# EAGLE library part A10_OLIMEXINO_LIME_SHIELD_A10_OLINUXINO_LIME_SHIELD_TEMPLATE (library videobrick_alpha4_eagle_footprints)
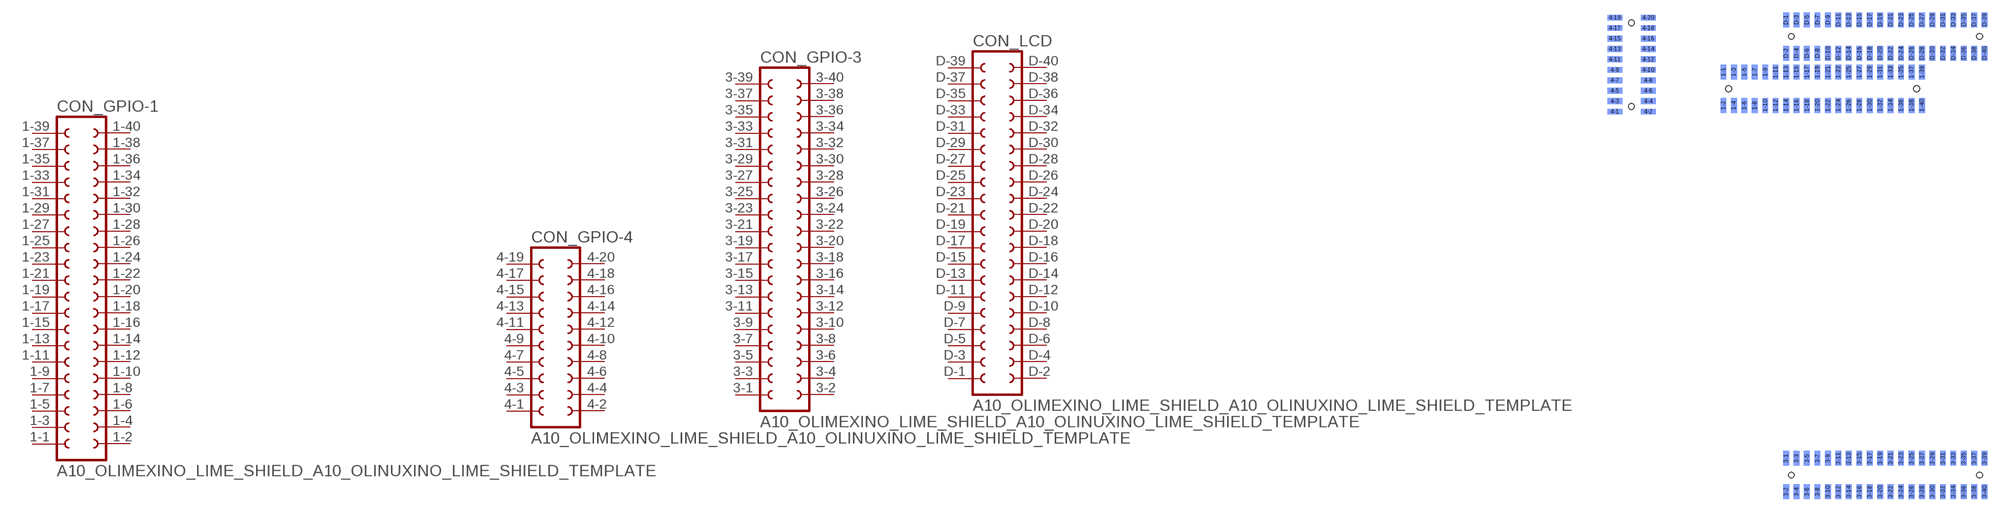
[diagram p0: symbol with the pads of A10_OLIMEXINO_LIME_SHIELD_A10_OLINUXINO_LIME_SHIELD; footprint A10_OLIMEXINO_LIME_SHIELD_A10_OLINUXINO_LIME_SHIELD]

Designator prefix CON; gates _GPIO-1=A10_OLIMEXINO_LIME_SHIELD_CON_2X20_F _GPIO-3=A10_OLIMEXINO_LIME_SHIELD_CON_2X20_F _GPIO-4=A10_OLIMEXINO_LIME_SHIELD_CON_2X10_F _LCD=A10_OLIMEXINO_LIME_SHIELD_CON_2X20_F

## A10_OLIMEXINO_LIME_SHIELD_A10_OLINUXINO_LIME_SHIELD_TEMPLATE  [A10_OLIMEXINO_LIME_SHIELD_A10_OLINUXINO_LIME_SHIELD]
1-1  _GPIO-1:1  pas
1-2  _GPIO-1:2  pas
1-3  _GPIO-1:3  pas
1-4  _GPIO-1:4  pas
1-5  _GPIO-1:5  pas
1-6  _GPIO-1:6  pas
1-7  _GPIO-1:7  pas
1-8  _GPIO-1:8  pas
1-9  _GPIO-1:9  pas
1-10  _GPIO-1:10  pas
1-11  _GPIO-1:11  pas
1-12  _GPIO-1:12  pas
1-13  _GPIO-1:13  pas
1-14  _GPIO-1:14  pas
1-15  _GPIO-1:15  pas
1-16  _GPIO-1:16  pas
1-17  _GPIO-1:17  pas
1-18  _GPIO-1:18  pas
1-19  _GPIO-1:19  pas
1-20  _GPIO-1:20  pas
1-21  _GPIO-1:21  pas
1-22  _GPIO-1:22  pas
1-23  _GPIO-1:23  pas
1-24  _GPIO-1:24  pas
1-25  _GPIO-1:25  pas
1-26  _GPIO-1:26  pas
1-27  _GPIO-1:27  pas
1-28  _GPIO-1:28  pas
1-29  _GPIO-1:29  pas
1-30  _GPIO-1:30  pas
1-31  _GPIO-1:31  pas
1-32  _GPIO-1:32  pas
1-33  _GPIO-1:33  pas
1-34  _GPIO-1:34  pas
1-35  _GPIO-1:35  pas
1-36  _GPIO-1:36  pas
1-37  _GPIO-1:37  pas
1-38  _GPIO-1:38  pas
1-39  _GPIO-1:39  pas
1-40  _GPIO-1:40  pas
3-1  _GPIO-3:1  pas
3-2  _GPIO-3:2  pas
3-3  _GPIO-3:3  pas
3-4  _GPIO-3:4  pas
3-5  _GPIO-3:5  pas
3-6  _GPIO-3:6  pas
3-7  _GPIO-3:7  pas
3-8  _GPIO-3:8  pas
3-9  _GPIO-3:9  pas
3-10  _GPIO-3:10  pas
3-11  _GPIO-3:11  pas
3-12  _GPIO-3:12  pas
3-13  _GPIO-3:13  pas
3-14  _GPIO-3:14  pas
3-15  _GPIO-3:15  pas
3-16  _GPIO-3:16  pas
3-17  _GPIO-3:17  pas
3-18  _GPIO-3:18  pas
3-19  _GPIO-3:19  pas
3-20  _GPIO-3:20  pas
3-21  _GPIO-3:21  pas
3-22  _GPIO-3:22  pas
3-23  _GPIO-3:23  pas
3-24  _GPIO-3:24  pas
3-25  _GPIO-3:25  pas
3-26  _GPIO-3:26  pas
3-27  _GPIO-3:27  pas
3-28  _GPIO-3:28  pas
3-29  _GPIO-3:29  pas
3-30  _GPIO-3:30  pas
3-31  _GPIO-3:31  pas
3-32  _GPIO-3:32  pas
3-33  _GPIO-3:33  pas
3-34  _GPIO-3:34  pas
3-35  _GPIO-3:35  pas
3-36  _GPIO-3:36  pas
3-37  _GPIO-3:37  pas
3-38  _GPIO-3:38  pas
3-39  _GPIO-3:39  pas
3-40  _GPIO-3:40  pas
4-1  _GPIO-4:1  pas
4-2  _GPIO-4:2  pas
4-3  _GPIO-4:3  pas
4-4  _GPIO-4:4  pas
4-5  _GPIO-4:5  pas
4-6  _GPIO-4:6  pas
4-7  _GPIO-4:7  pas
4-8  _GPIO-4:8  pas
4-9  _GPIO-4:9  pas
4-10  _GPIO-4:10  pas
4-11  _GPIO-4:11  pas
4-12  _GPIO-4:12  pas
4-13  _GPIO-4:13  pas
4-14  _GPIO-4:14  pas
4-15  _GPIO-4:15  pas
4-16  _GPIO-4:16  pas
4-17  _GPIO-4:17  pas
4-18  _GPIO-4:18  pas
4-19  _GPIO-4:19  pas
4-20  _GPIO-4:20  pas
D-1  _LCD:1  pas
D-2  _LCD:2  pas
D-3  _LCD:3  pas
D-4  _LCD:4  pas
D-5  _LCD:5  pas
D-6  _LCD:6  pas
D-7  _LCD:7  pas
D-8  _LCD:8  pas
D-9  _LCD:9  pas
D-10  _LCD:10  pas
D-11  _LCD:11  pas
D-12  _LCD:12  pas
D-13  _LCD:13  pas
D-14  _LCD:14  pas
D-15  _LCD:15  pas
D-16  _LCD:16  pas
D-17  _LCD:17  pas
D-18  _LCD:18  pas
D-19  _LCD:19  pas
D-20  _LCD:20  pas
D-21  _LCD:21  pas
D-22  _LCD:22  pas
D-23  _LCD:23  pas
D-24  _LCD:24  pas
D-25  _LCD:25  pas
D-26  _LCD:26  pas
D-27  _LCD:27  pas
D-28  _LCD:28  pas
D-29  _LCD:29  pas
D-30  _LCD:30  pas
D-31  _LCD:31  pas
D-32  _LCD:32  pas
D-33  _LCD:33  pas
D-34  _LCD:34  pas
D-35  _LCD:35  pas
D-36  _LCD:36  pas
D-37  _LCD:37  pas
D-38  _LCD:38  pas
D-39  _LCD:39  pas
D-40  _LCD:40  pas

## Footprint A10_OLIMEXINO_LIME_SHIELD_A10_OLINUXINO_LIME_SHIELD (pad centres in mm)
Names and values for individual connectors are in bTest layer. Sample size of the circuit board is shown in Document layer.
smd 0.7 x 1.8 bottom: 1-1 -11.874,22.416; 1-2 -11.874,18.352; 1-3 -10.604,22.416; 1-4 -10.604,18.352; 1-5 -9.335,22.416; 1-6 -9.335,18.352; 1-7 -8.065,22.416; 1-8 -8.065,18.352; 1-9 -6.795,22.416; 1-10 -6.795,18.352; 1-11 -5.524,22.416; 1-12 -5.524,18.352; 1-13 -4.255,22.416; 1-14 -4.255,18.352; 1-15 -2.985,22.416; 1-16 -2.985,18.352; 1-17 -1.714,22.416; 1-18 -1.714,18.352; 1-19 -0.445,22.416; 1-20 -0.445,18.352; 1-21 0.826,22.416; 1-22 0.826,18.352; 1-23 2.095,22.416; 1-24 2.095,18.352; 1-25 3.365,22.416; 1-26 3.365,18.352; 1-27 4.636,22.416; 1-28 4.636,18.352; 1-29 5.905,22.416; 1-30 5.905,18.352; 1-31 7.176,22.416; 1-32 7.176,18.352; 1-33 8.445,22.416; 1-34 8.445,18.352; 1-35 9.716,22.416; 1-36 9.716,18.352; 1-37 10.986,22.416; 1-38 10.986,18.352; 1-39 12.255,22.416; 1-40 12.255,18.352; 3-1 -4.255,-24.575; 3-2 -4.255,-28.639; 3-3 -2.985,-24.575; 3-4 -2.985,-28.639; 3-5 -1.714,-24.575; 3-6 -1.714,-28.639; 3-7 -0.445,-24.575; 3-8 -0.445,-28.639; 3-9 0.826,-24.575; 3-10 0.826,-28.639; 3-11 2.095,-24.575; 3-12 2.095,-28.639; 3-13 3.365,-24.575; 3-14 3.365,-28.639; 3-15 4.636,-24.575; 3-16 4.636,-28.639; 3-17 5.905,-24.575; 3-18 5.905,-28.639; 3-19 7.176,-24.575; 3-20 7.176,-28.639; 3-21 8.445,-24.575; 3-22 8.445,-28.639; 3-23 9.716,-24.575; 3-24 9.716,-28.639; 3-25 10.986,-24.575; 3-26 10.986,-28.639; 3-27 12.255,-24.575; 3-28 12.255,-28.639; 3-29 13.525,-24.575; 3-30 13.525,-28.639; 3-31 14.796,-24.575; 3-32 14.796,-28.639; 3-33 16.066,-24.575; 3-34 16.066,-28.639; 3-35 17.335,-24.575; 3-36 17.335,-28.639; 3-37 18.605,-24.575; 3-38 18.605,-28.639; 3-39 19.875,-24.575; 3-40 19.875,-28.639; D-1 -4.255,28.765; D-2 -4.255,24.701; D-3 -2.985,28.765; D-4 -2.985,24.701; D-5 -1.714,28.765; D-6 -1.714,24.701; D-7 -0.445,28.765; D-8 -0.445,24.701; D-9 0.826,28.765; D-10 0.826,24.701; D-11 2.095,28.765; D-12 2.095,24.701; D-13 3.365,28.765; D-14 3.365,24.701; D-15 4.636,28.765; D-16 4.636,24.701; D-17 5.905,28.765; D-18 5.905,24.701; D-19 7.176,28.765; D-20 7.176,24.701; D-21 8.445,28.765; D-22 8.445,24.701; D-23 9.716,28.765; D-24 9.716,24.701; D-25 10.986,28.765; D-26 10.986,24.701; D-27 12.255,28.765; D-28 12.255,24.701; D-29 13.525,28.765; D-30 13.525,24.701; D-31 14.796,28.765; D-32 14.796,24.701; D-33 16.066,28.765; D-34 16.066,24.701; D-35 17.335,28.765; D-36 17.335,24.701; D-37 18.605,28.765; D-38 18.605,24.701; D-39 19.875,28.765; D-40 19.875,24.701
smd 1.8 x 0.7 bottom: 4-1 -25.082,17.59; 4-2 -21.018,17.59; 4-3 -25.082,18.86; 4-4 -21.018,18.86; 4-5 -25.082,20.13; 4-6 -21.018,20.13; 4-7 -25.082,21.399; 4-8 -21.018,21.399; 4-9 -25.082,22.669; 4-10 -21.018,22.669; 4-11 -25.082,23.939; 4-12 -21.018,23.939; 4-13 -25.082,25.209; 4-14 -21.018,25.209; 4-15 -25.082,26.48; 4-16 -21.018,26.48; 4-17 -25.082,27.75; 4-18 -21.018,27.75; 4-19 -25.082,29.02; 4-20 -21.018,29.02
hole 0.7 at -11.239,20.384
hole 0.7 at 11.62,20.384
hole 0.7 at -3.619,-26.607
hole 0.7 at 19.241,-26.607
hole 0.7 at -3.619,26.733
hole 0.7 at 19.241,26.733
hole 0.7 at -23.05,18.224
hole 0.7 at -23.05,28.384